# Altium footprint library SamacSys.PcbLib: 11 footprints
Each footprint in its own frame and in the unit in brackets; x right, y up, seen from the top. Pads: shape width x height; smd on the part's side, far side on the other; paste and mask are expansions set on the pad; w line width, h text height; cw(c..) or ccw(c..) is an arc to the next point about the centre after c.
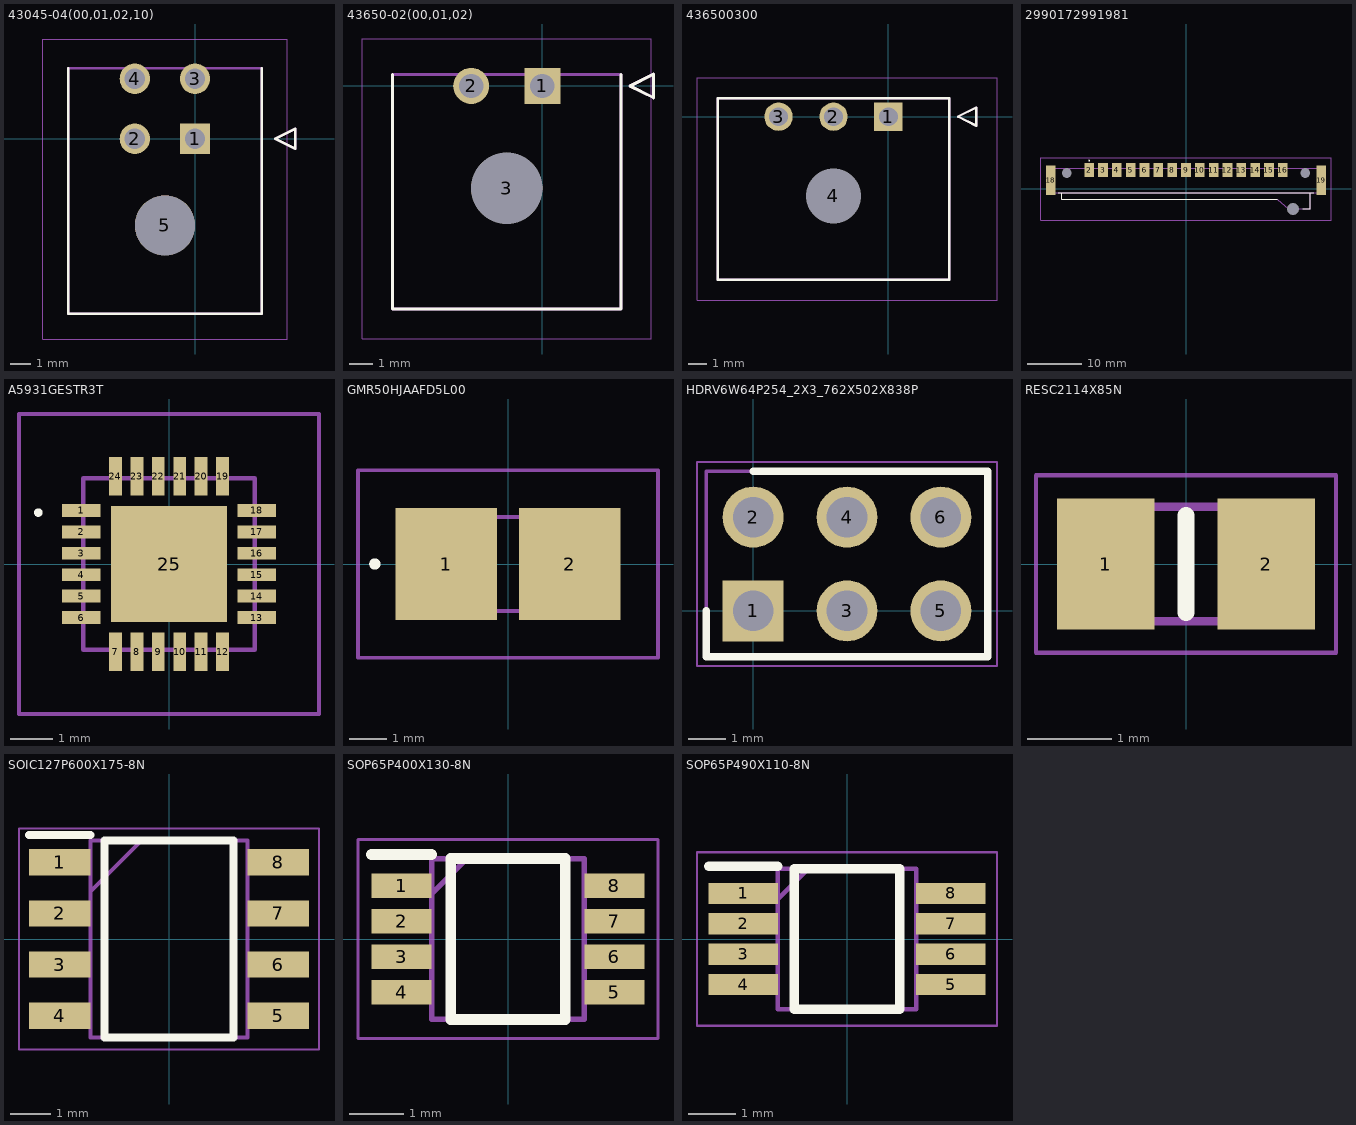
[diagram p0: the footprints below, top view; thin cyan lines are the x and y axes]

## 43045-04(00,01,02,10) [mm]
pads (5):
  rect 1.52x1.52 hole 1.02: 1(0,0)
  round 1.52 hole 1.02: 2(-3,0) 3(0,3) 4(-3,3)
  round 3 hole 3 unplated: 5(-1.5,-4.32)
Top Overlay:
  lines w0.127: -6.325,3.52 -6.325,-8.72 3.325,-8.72 3.325,3.52 ; 4,0 5,-0.5 5,0.5 4,0
Mechanical 13:
  lines w0.127: -6.325,-8.72 3.325,-8.72 3.325,3.52 -6.325,3.52 -6.325,-8.72 ; 4,0 5,-0.5 5,0.5 4,0
Mechanical 15:
  lines w0.05: -7.595,-9.99 4.595,-9.99 4.595,4.979 -7.595,4.979 -7.595,-9.99
3D body "43045-0400.stp": height 8.7, standoff -3.25, extent -6.575,-8.925 3.575,3.315

## 43650-02(00,01,02) [mm]
pads (3):
  rect 1.52x1.52 hole 1.02: 1(0,0)
  round 1.52 hole 1.02: 2(-3,0)
  round 3 hole 3 unplated: 3(-1.5,-4.32)
Top Overlay:
  lines w0.127: -6.325,0.49 -6.325,-9.41 3.325,-9.41 3.325,0.49 ; 3.7,0 4.7,0.5 4.7,-0.5 3.7,0
Mechanical 13:
  lines w0.127: -6.325,-9.41 -6.325,0.49 3.325,0.49 3.325,-9.41 -6.325,-9.41 ; 3.7,0 4.7,0.5 4.7,-0.5 3.7,0
Mechanical 15:
  lines w0.05: -7.595,-10.68 -7.595,1.979 4.595,1.979 4.595,-10.68 -7.595,-10.68
3D body "43650-0200.stp": height 5.58, standoff -3.33, extent -6.325,-8.93 3.325,0.97

## 436500300 [mm]
pads (4):
  rect 1.55x1.55 hole 1.02: 1(0,0)
  round 1.55 hole 1.02: 2(-3,0) 3(-6,0)
  round 1.5 hole 3 unplated: 4(-3,-4.32)
Top Overlay:
  lines w0.127: -9.325,-8.9 -9.325,1 3.325,1 3.325,-8.9 -9.325,-8.9 ; 3.8,0 4.8,0.5 4.8,-0.5 3.8,0
Mechanical 13:
  lines w0.127: -9.325,-8.9 -9.325,1 3.325,1 3.325,-8.9 -9.325,-8.9 ; 3.8,0 4.8,0.5 4.8,-0.5 3.8,0
Mechanical 15:
  lines w0.05: -10.452,-10.027 -10.452,2.127 5.927,2.127 5.927,-10.027 -10.452,-10.027
3D body "43650-0300.stp": height 12.2, standoff 2.3, extent -9.285,-9.01 3.365,-0.14

## 2990172991981 [mm]
pads (20):
  rect 1.78x2.54 smd: 2(-17.78,3.415) 3(-15.24,3.415) 4(-12.7,3.415) 5(-10.16,3.415) 6(-7.62,3.415) 7(-5.08,3.415) 8(-2.54,3.415) 9(0,3.415) 10(2.54,3.415) 11(5.08,3.415) 12(7.62,3.415) 13(10.16,3.415) 14(12.7,3.415) 15(15.24,3.415) 16(17.78,3.415)
  rect 1.75x5.5 smd: 18(-24.815,1.535) 19(24.815,1.535)
  round 0.9 hole 1.8 unplated: 20(-21.93,2.885) 21(21.93,2.885)
  round 1.1 hole 2.2 unplated: 22(19.69,-3.735)
Top Overlay:
  lines w0.1: -17.78,5.1 ccw(c-17.78,5.15) -17.78,5.2 ccw(c-17.78,5.15) -17.78,5.1
  lines w0.2: -23.5,-0.765 23.5,-0.765 ; -22.79,-0.765 -22.79,-1.965 16.79,-1.965 ; 21.5,-3.735 22.79,-3.735 22.79,-0.765
Mechanical 13:
  lines w0.1: -22.79,-0.765 -22.79,-1.965 16.79,-1.965 18.79,-3.735 22.79,-3.735 22.79,-0.765 ; -25.19,-0.765 -25.19,3.735 25.19,3.735 25.19,-0.765 -25.19,-0.765
Mechanical 15:
  lines w0.1: -26.69,-5.835 -26.69,5.685 26.69,5.685 26.69,-5.835 -26.69,-5.835

## A5931GESTR3T [mm]
pads (25):
  rect 0.9x0.3 smd: 1(-2.05,1.25) 2(-2.05,0.75) 3(-2.05,0.25) 4(-2.05,-0.25) 5(-2.05,-0.75) 6(-2.05,-1.25) 13(2.05,-1.25) 14(2.05,-0.75) 15(2.05,-0.25) 16(2.05,0.25) 17(2.05,0.75) 18(2.05,1.25)
  rect 0.3x0.9 smd: 7(-1.25,-2.05) 8(-0.75,-2.05) 9(-0.25,-2.05) 10(0.25,-2.05) 11(0.75,-2.05) 12(1.25,-2.05) 19(1.25,2.05) 20(0.75,2.05) 21(0.25,2.05) 22(-0.25,2.05) 23(-0.75,2.05) 24(-1.25,2.05)
  rect 2.7x2.7 smd: 25(0,0)
Top Overlay:
  lines w0.1: -3.1,1.2 cw(c-3.05,1.2) -3,1.2 cw(c-3.05,1.2) -3.1,1.2
Mechanical 13:
  lines w0.1: -2,-2 2,-2 2,2 -2,2 -2,-2
Mechanical 15:
  lines w0.1: -3.5,-3.5 3.5,-3.5 3.5,3.5 -3.5,3.5 -3.5,-3.5
3D body "A4957SESTR-T.stp": height 0.79, standoff 0.04, extent -2.002,-1.999 1.998,2.001

## GMR50HJAAFD5L00 [mm]
pads (2):
  rect 2.7x3 smd: 1(-1.65,0) 2(1.65,0)
Top Overlay:
  lines w0.2: -3.6,0 ccw(c-3.55,0) -3.5,0 ; -3.6,0 cw(c-3.55,0) -3.5,0 ; -3.6,0 ccw(c-3.55,0) -3.5,0
Mechanical 13:
  lines w0.1: -2.5,-1.25 -2.5,1.25 2.5,1.25 2.5,-1.25 -2.5,-1.25
Mechanical 15:
  lines w0.1: -4,-2.5 -4,2.5 4,2.5 4,-2.5 -4,-2.5
3D body "GMR50HJAAFD5L00.stp": height 0.56, standoff 0, extent -2.629,-1.372 2.629,1.372

## HDRV6W64P254_2X3_762X502X838P [mm]
pads (6):
  rect 1.65x1.65 hole 1.1: 1(0,0)
  round 1.65 hole 1.1: 2(0,2.54) 3(2.54,0) 4(2.54,2.54) 5(5.08,0) 6(5.08,2.54)
Top Overlay:
  lines w0.2: -1.27,0 -1.27,-1.24 6.35,-1.24 6.35,3.78 0,3.78
Mechanical 13:
  lines w0.1: -1.27,-1.24 6.35,-1.24 6.35,3.78 -1.27,3.78 -1.27,-1.24
Mechanical 15:
  lines w0.05: -1.52,-1.49 6.6,-1.49 6.6,4.03 -1.52,4.03 -1.52,-1.49
3D body "HTSW-103-07-F-D.stp": height 8.38, standoff -2.54, extent -1.27,-1.24 6.35,3.78

## RESC2114X85N [mm]
pads (2):
  rect 1.15x1.55 smd: 1(-0.95,0) 2(0.95,0)
Top Overlay:
  lines w0.2: 0,-0.575 0,0.575
Mechanical 13:
  lines w0.1: -1.05,-0.675 -1.05,0.675 1.05,0.675 1.05,-0.675 -1.05,-0.675
Mechanical 15:
  lines w0.05: -1.775,-1.05 -1.775,1.05 1.775,1.05 1.775,-1.05 -1.775,-1.05
3D body "WSTM0805QLR004FNR.stp": height 0.85, standoff 0, extent -1.05,-0.675 1.05,0.675

## SOIC127P600X175-8N [mm]
pads (8):
  rect 1.525x0.65 smd: 1(-2.712,1.905) 2(-2.712,0.635) 3(-2.712,-0.635) 4(-2.712,-1.905) 5(2.712,-1.905) 6(2.712,-0.635) 7(2.712,0.635) 8(2.712,1.905)
Top Overlay:
  lines w0.2: -3.475,2.58 -1.95,2.58 ; -1.6,-2.45 1.6,-2.45 1.6,2.45 -1.6,2.45 -1.6,-2.45
Mechanical 13:
  lines w0.1: -1.95,1.18 -0.68,2.45 ; -1.95,-2.45 1.95,-2.45 1.95,2.45 -1.95,2.45 -1.95,-2.45
Mechanical 15:
  lines w0.05: -3.725,-2.75 3.725,-2.75 3.725,2.75 -3.725,2.75 -3.725,-2.75
3D body "NE555DR.stp": height 1.75, standoff 0, extent -3,-2.45 3,2.45

## SOP65P400X130-8N [mm]
pads (8):
  rect 1.1x0.45 smd: 1(-1.95,0.975) 2(-1.95,0.325) 3(-1.95,-0.325) 4(-1.95,-0.975) 5(1.95,-0.975) 6(1.95,-0.325) 7(1.95,0.325) 8(1.95,0.975)
Top Overlay:
  lines w0.2: -2.5,1.55 -1.4,1.55 ; -1.05,-1.475 -1.05,1.475 1.05,1.475 1.05,-1.475 -1.05,-1.475
Mechanical 13:
  lines w0.1: -1.4,0.825 -0.75,1.475 ; -1.4,-1.475 -1.4,1.475 1.4,1.475 1.4,-1.475 -1.4,-1.475
Mechanical 15:
  lines w0.05: -2.75,-1.825 -2.75,1.825 2.75,1.825 2.75,-1.825 -2.75,-1.825
3D body "74LVC2G241DCTR.stp": height 0.91, standoff 0, extent -2.01,-1.475 2.01,1.475

## SOP65P490X110-8N [mm]
pads (8):
  rect 1.475x0.45 smd: 1(-2.212,0.975) 2(-2.212,0.325) 3(-2.212,-0.325) 4(-2.212,-0.975) 5(2.212,-0.975) 6(2.212,-0.325) 7(2.212,0.325) 8(2.212,0.975)
Top Overlay:
  lines w0.2: -2.95,1.55 -1.475,1.55 ; -1.125,-1.5 -1.125,1.5 1.125,1.5 1.125,-1.5 -1.125,-1.5
Mechanical 13:
  lines w0.1: -1.475,0.85 -0.825,1.5 ; -1.475,-1.5 -1.475,1.5 1.475,1.5 1.475,-1.5 -1.475,-1.5
Mechanical 15:
  lines w0.05: -3.2,-1.85 -3.2,1.85 3.2,1.85 3.2,-1.85 -3.2,-1.85
3D body "TSC2021IST.stp": height 3, standoff -3, extent -2.45,0 2.45,1.57